# Altium integrated library Maxim Sensors.IntLib: 1171 symbols (part 22 of 61)
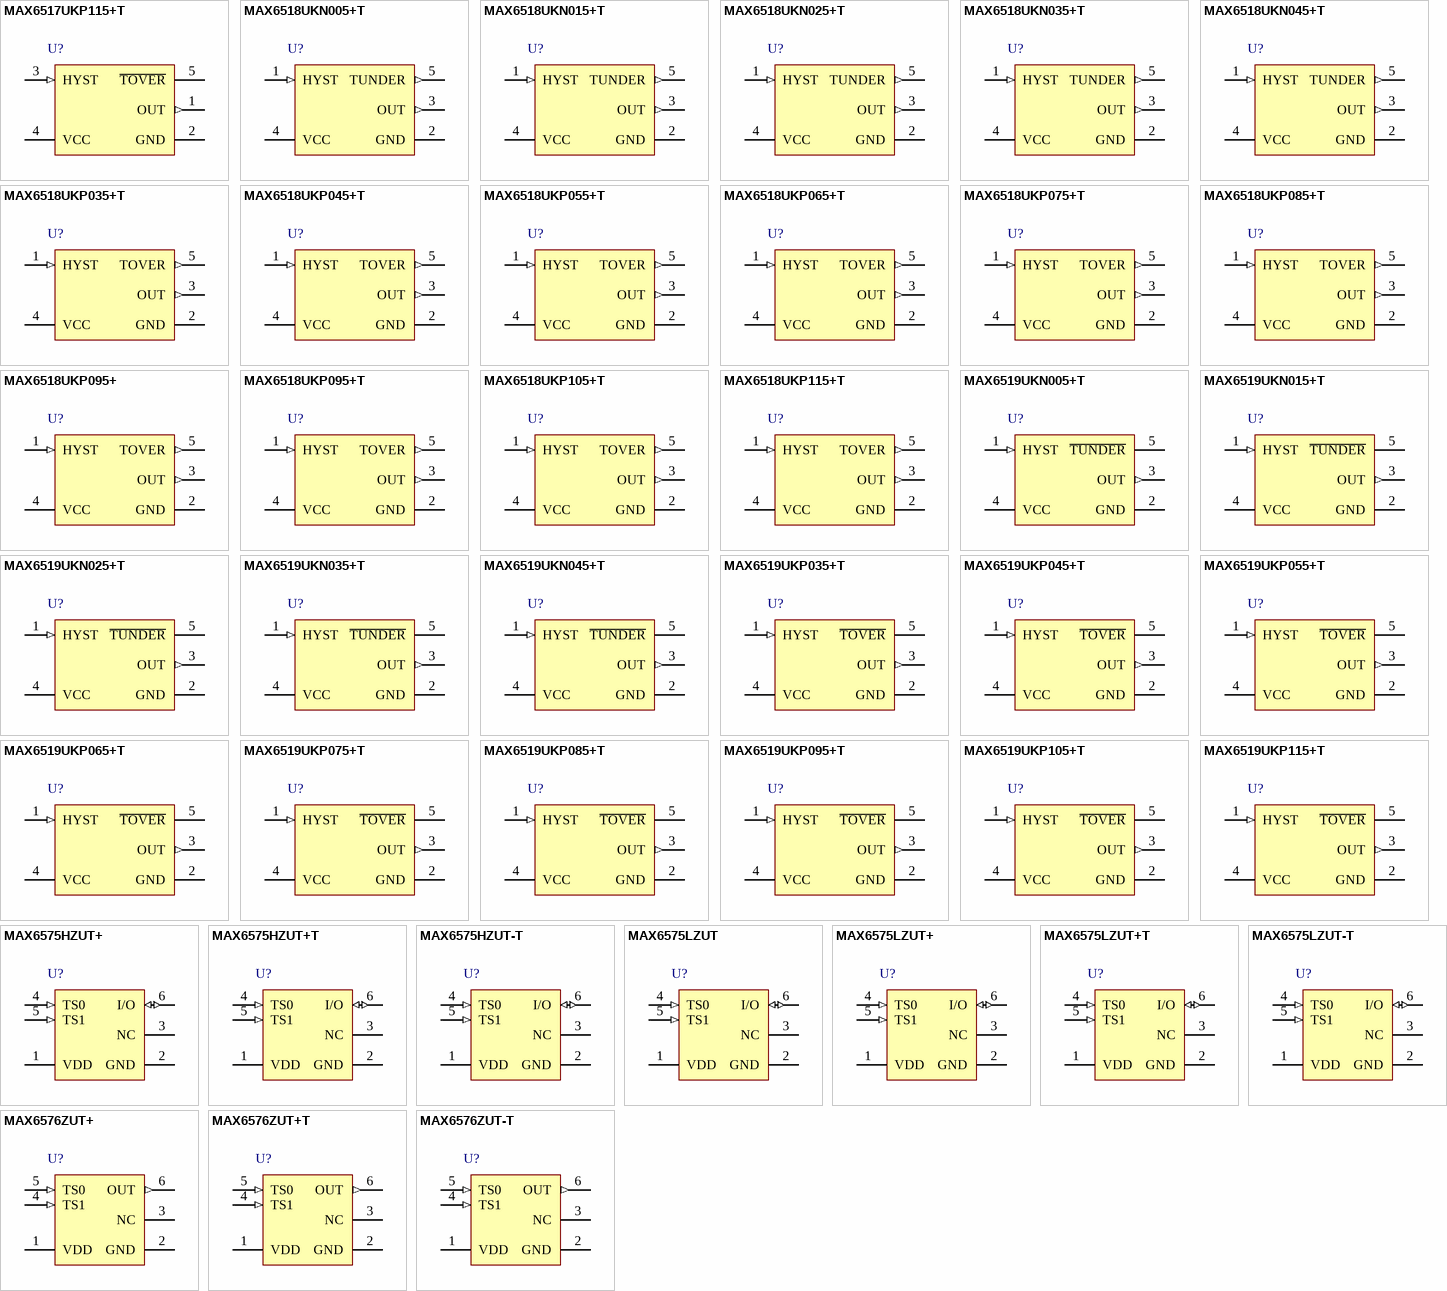
[diagram p54: symbols MAX6517UKP115+T to MAX6576ZUT-T]

## MAX6518UKP045+T
designator U?
Low-Cost, 2.7 to 5.5 V Temperature Switch, -55 to 125 degC, 5-Pin SOT23 (U5+2), Pb-Free, Tape and Reel; Generic Part Number: MAX6518; PartNumber: MAX6518UKP045+T; Functions: Temperature Switch/Temperature Comparator; Interface: Analog, Logic; DatasheetVersion: Rev. 1; PackageVersion: Rev. G, 04/2011; PackageReference: U5+2; PackageDescription: 5-Pin Small-Outline Transistor Package, Body 1.625 x 2.9 mm, Pitch 0.95 mm; Supplier 1: Digi-Key; Supplier Part Number 1: MAX6518UKP045+T-ND; Supplier 2: Mouser; Supplier Part Number 2: 700-MAX6518UKP045T; Packing: Tape and Reel; Mounting Technology: Surface Mount; Code_JEDEC: MO178; ComponentLink1Description: Manufacturer URL; ComponentLink1URL: http://www.maximintegrated.com/; ComponentLink2Description: Datasheet; ComponentLink2URL: http://datasheets.maximintegrated.com/en/ds/MAX6518; ComponentLink3Description: Package Specification; ComponentLink3URL: http://pdfserv.maximintegrated.com/package_dwgs/21-0057.PDF
footprint MAXM-U5+2_N (SOT23, 5-Leads, Body 2.9x1.625mm, Pitch 0.95mm, IPC Medium Density)
footprint MAXM-U5+2_L (SOT23, 5-Leads, Body 2.9x1.625mm, Pitch 0.95mm, IPC High Density)
footprint MAXM-U5+2_M (SOT23, 5-Leads, Body 2.9x1.625mm, Pitch 0.95mm, IPC Low Density)
pins: 1 HYST (in) "Hysteresis Input. Connect to VCC for 2degreesC of hysteresis or to GND for 10degreesC hysteresis.", 2 GND (power) "Ground", 3 OUT (out) "Analog Output. Voltage represents the die’s temperature.", 4 VCC (power) "Input Supply. Bypass to ground with a 0.1uF capacitor.", 5 TOVER (out) "Push-Pull Active-High Output (Hot Threshold). TOVER goes high when the die temperature exceeds the factory-programmed hot temperature threshold."

## MAX6518UKP055+T
designator U?
Low-Cost, 2.7 to 5.5 V Temperature Switch, -55 to 125 degC, 5-Pin SOT23 (U5+2), Pb-Free, Tape and Reel; Generic Part Number: MAX6518; PartNumber: MAX6518UKP055+T; Functions: Temperature Switch/Temperature Comparator; Interface: Analog, Logic; DatasheetVersion: Rev. 1; PackageVersion: Rev. G, 04/2011; PackageReference: U5+2; PackageDescription: 5-Pin Small-Outline Transistor Package, Body 1.625 x 2.9 mm, Pitch 0.95 mm; Supplier 1: Digi-Key; Supplier Part Number 1: MAX6518UKP055+T-ND; Supplier 2: Mouser; Supplier Part Number 2: 700-MAX6518UKP055T; Packing: Tape and Reel; Mounting Technology: Surface Mount; Code_JEDEC: MO178; ComponentLink1Description: Manufacturer URL; ComponentLink1URL: http://www.maximintegrated.com/; ComponentLink2Description: Datasheet; ComponentLink2URL: http://datasheets.maximintegrated.com/en/ds/MAX6518; ComponentLink3Description: Package Specification; ComponentLink3URL: http://pdfserv.maximintegrated.com/package_dwgs/21-0057.PDF
footprint MAXM-U5+2_N (SOT23, 5-Leads, Body 2.9x1.625mm, Pitch 0.95mm, IPC Medium Density)
footprint MAXM-U5+2_L (SOT23, 5-Leads, Body 2.9x1.625mm, Pitch 0.95mm, IPC High Density)
footprint MAXM-U5+2_M (SOT23, 5-Leads, Body 2.9x1.625mm, Pitch 0.95mm, IPC Low Density)
pins: 1 HYST (in) "Hysteresis Input. Connect to VCC for 2degreesC of hysteresis or to GND for 10degreesC hysteresis.", 2 GND (power) "Ground", 3 OUT (out) "Analog Output. Voltage represents the die’s temperature.", 4 VCC (power) "Input Supply. Bypass to ground with a 0.1uF capacitor.", 5 TOVER (out) "Push-Pull Active-High Output (Hot Threshold). TOVER goes high when the die temperature exceeds the factory-programmed hot temperature threshold."

## MAX6518UKP065+T
designator U?
Low-Cost, 2.7 to 5.5 V Temperature Switch, -55 to 125 degC, 5-Pin SOT23 (U5+2), Pb-Free, Tape and Reel; Generic Part Number: MAX6518; PartNumber: MAX6518UKP065+T; Functions: Temperature Switch/Temperature Comparator; Interface: Analog, Logic; DatasheetVersion: Rev. 1; PackageVersion: Rev. G, 04/2011; PackageReference: U5+2; PackageDescription: 5-Pin Small-Outline Transistor Package, Body 1.625 x 2.9 mm, Pitch 0.95 mm; Supplier 1: Digi-Key; Supplier Part Number 1: MAX6518UKP065+T-ND; Supplier 2: Mouser; Supplier Part Number 2: 700-MAX6518UKP065T; Packing: Tape and Reel; Mounting Technology: Surface Mount; Code_JEDEC: MO178; ComponentLink1Description: Manufacturer URL; ComponentLink1URL: http://www.maximintegrated.com/; ComponentLink2Description: Datasheet; ComponentLink2URL: http://datasheets.maximintegrated.com/en/ds/MAX6518; ComponentLink3Description: Package Specification; ComponentLink3URL: http://pdfserv.maximintegrated.com/package_dwgs/21-0057.PDF
footprint MAXM-U5+2_N (SOT23, 5-Leads, Body 2.9x1.625mm, Pitch 0.95mm, IPC Medium Density)
footprint MAXM-U5+2_L (SOT23, 5-Leads, Body 2.9x1.625mm, Pitch 0.95mm, IPC High Density)
footprint MAXM-U5+2_M (SOT23, 5-Leads, Body 2.9x1.625mm, Pitch 0.95mm, IPC Low Density)
pins: 1 HYST (in) "Hysteresis Input. Connect to VCC for 2degreesC of hysteresis or to GND for 10degreesC hysteresis.", 2 GND (power) "Ground", 3 OUT (out) "Analog Output. Voltage represents the die’s temperature.", 4 VCC (power) "Input Supply. Bypass to ground with a 0.1uF capacitor.", 5 TOVER (out) "Push-Pull Active-High Output (Hot Threshold). TOVER goes high when the die temperature exceeds the factory-programmed hot temperature threshold."

## MAX6518UKP075+T
designator U?
Low-Cost, 2.7 to 5.5 V Temperature Switch, -55 to 125 degC, 5-Pin SOT23 (U5+2), Pb-Free, Tape and Reel; Generic Part Number: MAX6518; PartNumber: MAX6518UKP075+T; Functions: Temperature Switch/Temperature Comparator; Interface: Analog, Logic; DatasheetVersion: Rev. 1; PackageVersion: Rev. G, 04/2011; PackageReference: U5+2; PackageDescription: 5-Pin Small-Outline Transistor Package, Body 1.625 x 2.9 mm, Pitch 0.95 mm; Supplier 1: Digi-Key; Supplier Part Number 1: MAX6518UKP075+T-ND; Supplier 2: Mouser; Supplier Part Number 2: 700-MAX6518UKP075T; Packing: Tape and Reel; Mounting Technology: Surface Mount; Code_JEDEC: MO178; ComponentLink1Description: Manufacturer URL; ComponentLink1URL: http://www.maximintegrated.com/; ComponentLink2Description: Datasheet; ComponentLink2URL: http://datasheets.maximintegrated.com/en/ds/MAX6518; ComponentLink3Description: Package Specification; ComponentLink3URL: http://pdfserv.maximintegrated.com/package_dwgs/21-0057.PDF
footprint MAXM-U5+2_N (SOT23, 5-Leads, Body 2.9x1.625mm, Pitch 0.95mm, IPC Medium Density)
footprint MAXM-U5+2_L (SOT23, 5-Leads, Body 2.9x1.625mm, Pitch 0.95mm, IPC High Density)
footprint MAXM-U5+2_M (SOT23, 5-Leads, Body 2.9x1.625mm, Pitch 0.95mm, IPC Low Density)
pins: 1 HYST (in) "Hysteresis Input. Connect to VCC for 2degreesC of hysteresis or to GND for 10degreesC hysteresis.", 2 GND (power) "Ground", 3 OUT (out) "Analog Output. Voltage represents the die’s temperature.", 4 VCC (power) "Input Supply. Bypass to ground with a 0.1uF capacitor.", 5 TOVER (out) "Push-Pull Active-High Output (Hot Threshold). TOVER goes high when the die temperature exceeds the factory-programmed hot temperature threshold."

## MAX6518UKP085+T
designator U?
Low-Cost, 2.7 to 5.5 V Temperature Switch, -55 to 125 degC, 5-Pin SOT23 (U5+2), Pb-Free, Tape and Reel; Generic Part Number: MAX6518; PartNumber: MAX6518UKP085+T; Functions: Temperature Switch/Temperature Comparator; Interface: Analog, Logic; DatasheetVersion: Rev. 1; PackageVersion: Rev. G, 04/2011; PackageReference: U5+2; PackageDescription: 5-Pin Small-Outline Transistor Package, Body 1.625 x 2.9 mm, Pitch 0.95 mm; Supplier 1: Digi-Key; Supplier Part Number 1: MAX6518UKP085+T-ND; Supplier 2: Mouser; Supplier Part Number 2: 700-MAX6518UKP085T; Packing: Tape and Reel; Mounting Technology: Surface Mount; Code_JEDEC: MO178; ComponentLink1Description: Manufacturer URL; ComponentLink1URL: http://www.maximintegrated.com/; ComponentLink2Description: Datasheet; ComponentLink2URL: http://datasheets.maximintegrated.com/en/ds/MAX6518; ComponentLink3Description: Package Specification; ComponentLink3URL: http://pdfserv.maximintegrated.com/package_dwgs/21-0057.PDF
footprint MAXM-U5+2_N (SOT23, 5-Leads, Body 2.9x1.625mm, Pitch 0.95mm, IPC Medium Density)
footprint MAXM-U5+2_L (SOT23, 5-Leads, Body 2.9x1.625mm, Pitch 0.95mm, IPC High Density)
footprint MAXM-U5+2_M (SOT23, 5-Leads, Body 2.9x1.625mm, Pitch 0.95mm, IPC Low Density)
pins: 1 HYST (in) "Hysteresis Input. Connect to VCC for 2degreesC of hysteresis or to GND for 10degreesC hysteresis.", 2 GND (power) "Ground", 3 OUT (out) "Analog Output. Voltage represents the die’s temperature.", 4 VCC (power) "Input Supply. Bypass to ground with a 0.1uF capacitor.", 5 TOVER (out) "Push-Pull Active-High Output (Hot Threshold). TOVER goes high when the die temperature exceeds the factory-programmed hot temperature threshold."

## MAX6518UKP095+
designator U?
Low-Cost, 2.7 to 5.5 V Temperature Switch, -55 to 125 degC, 5-Pin SOT23 (U5+2), Pb-Free; Generic Part Number: MAX6518; PartNumber: MAX6518UKP095+; Functions: Temperature Switch/Temperature Comparator; Interface: Analog, Logic; DatasheetVersion: Rev. 1; PackageVersion: Rev. G, 04/2011; PackageReference: U5+2; PackageDescription: 5-Pin Small-Outline Transistor Package, Body 1.625 x 2.9 mm, Pitch 0.95 mm; Supplier 1: Mouser; Supplier Part Number 1: N/A; Mounting Technology: Surface Mount; Code_JEDEC: MO178; ComponentLink1Description: Manufacturer URL; ComponentLink1URL: http://www.maximintegrated.com/; ComponentLink2Description: Datasheet; ComponentLink2URL: http://datasheets.maximintegrated.com/en/ds/MAX6518; ComponentLink3Description: Package Specification; ComponentLink3URL: http://pdfserv.maximintegrated.com/package_dwgs/21-0057.PDF
footprint MAXM-U5+2_N (SOT23, 5-Leads, Body 2.9x1.625mm, Pitch 0.95mm, IPC Medium Density)
footprint MAXM-U5+2_L (SOT23, 5-Leads, Body 2.9x1.625mm, Pitch 0.95mm, IPC High Density)
footprint MAXM-U5+2_M (SOT23, 5-Leads, Body 2.9x1.625mm, Pitch 0.95mm, IPC Low Density)
pins: 1 HYST (in) "Hysteresis Input. Connect to VCC for 2degreesC of hysteresis or to GND for 10degreesC hysteresis.", 2 GND (power) "Ground", 3 OUT (out) "Analog Output. Voltage represents the die’s temperature.", 4 VCC (power) "Input Supply. Bypass to ground with a 0.1uF capacitor.", 5 TOVER (out) "Push-Pull Active-High Output (Hot Threshold). TOVER goes high when the die temperature exceeds the factory-programmed hot temperature threshold."

## MAX6518UKP095+T
designator U?
Low-Cost, 2.7 to 5.5 V Temperature Switch, -55 to 125 degC, 5-Pin SOT23 (U5+2), Pb-Free, Tape and Reel; Generic Part Number: MAX6518; PartNumber: MAX6518UKP095+T; Functions: Temperature Switch/Temperature Comparator; Interface: Analog, Logic; DatasheetVersion: Rev. 1; PackageVersion: Rev. G, 04/2011; PackageReference: U5+2; PackageDescription: 5-Pin Small-Outline Transistor Package, Body 1.625 x 2.9 mm, Pitch 0.95 mm; Supplier 1: Digi-Key; Supplier Part Number 1: MAX6518UKP095+TTR-ND; Supplier 2: Digi-Key; Supplier Part Number 2: MAX6518UKP095+TCT-ND; Supplier 3: Digi-Key; Supplier Part Number 3: MAX6518UKP095+TDKR-ND; Supplier 4: Mouser; Supplier Part Number 4: 700-MAX6518UKP095T; Packing: Tape and Reel; Mounting Technology: Surface Mount; Code_JEDEC: MO178; ComponentLink1Description: Manufacturer URL; ComponentLink1URL: http://www.maximintegrated.com/; ComponentLink2Description: Datasheet; ComponentLink2URL: http://datasheets.maximintegrated.com/en/ds/MAX6518; ComponentLink3Description: Package Specification; ComponentLink3URL: http://pdfserv.maximintegrated.com/package_dwgs/21-0057.PDF
footprint MAXM-U5+2_N (SOT23, 5-Leads, Body 2.9x1.625mm, Pitch 0.95mm, IPC Medium Density)
footprint MAXM-U5+2_L (SOT23, 5-Leads, Body 2.9x1.625mm, Pitch 0.95mm, IPC High Density)
footprint MAXM-U5+2_M (SOT23, 5-Leads, Body 2.9x1.625mm, Pitch 0.95mm, IPC Low Density)
pins: 1 HYST (in) "Hysteresis Input. Connect to VCC for 2degreesC of hysteresis or to GND for 10degreesC hysteresis.", 2 GND (power) "Ground", 3 OUT (out) "Analog Output. Voltage represents the die’s temperature.", 4 VCC (power) "Input Supply. Bypass to ground with a 0.1uF capacitor.", 5 TOVER (out) "Push-Pull Active-High Output (Hot Threshold). TOVER goes high when the die temperature exceeds the factory-programmed hot temperature threshold."

## MAX6518UKP105+T
designator U?
Low-Cost, 2.7 to 5.5 V Temperature Switch, -55 to 125 degC, 5-Pin SOT23 (U5+2), Pb-Free, Tape and Reel; Generic Part Number: MAX6518; PartNumber: MAX6518UKP105+T; Functions: Temperature Switch/Temperature Comparator; Interface: Analog, Logic; DatasheetVersion: Rev. 1; PackageVersion: Rev. G, 04/2011; PackageReference: U5+2; PackageDescription: 5-Pin Small-Outline Transistor Package, Body 1.625 x 2.9 mm, Pitch 0.95 mm; Supplier 1: Digi-Key; Supplier Part Number 1: MAX6518UKP105+T-ND; Supplier 2: Mouser; Supplier Part Number 2: 700-MAX6518UKP105T; Packing: Tape and Reel; Mounting Technology: Surface Mount; Code_JEDEC: MO178; ComponentLink1Description: Manufacturer URL; ComponentLink1URL: http://www.maximintegrated.com/; ComponentLink2Description: Datasheet; ComponentLink2URL: http://datasheets.maximintegrated.com/en/ds/MAX6518; ComponentLink3Description: Package Specification; ComponentLink3URL: http://pdfserv.maximintegrated.com/package_dwgs/21-0057.PDF
footprint MAXM-U5+2_N (SOT23, 5-Leads, Body 2.9x1.625mm, Pitch 0.95mm, IPC Medium Density)
footprint MAXM-U5+2_L (SOT23, 5-Leads, Body 2.9x1.625mm, Pitch 0.95mm, IPC High Density)
footprint MAXM-U5+2_M (SOT23, 5-Leads, Body 2.9x1.625mm, Pitch 0.95mm, IPC Low Density)
pins: 1 HYST (in) "Hysteresis Input. Connect to VCC for 2degreesC of hysteresis or to GND for 10degreesC hysteresis.", 2 GND (power) "Ground", 3 OUT (out) "Analog Output. Voltage represents the die’s temperature.", 4 VCC (power) "Input Supply. Bypass to ground with a 0.1uF capacitor.", 5 TOVER (out) "Push-Pull Active-High Output (Hot Threshold). TOVER goes high when the die temperature exceeds the factory-programmed hot temperature threshold."

## MAX6518UKP115+T
designator U?
Low-Cost, 2.7 to 5.5 V Temperature Switch, -55 to 125 degC, 5-Pin SOT23 (U5+2), Pb-Free, Tape and Reel; Generic Part Number: MAX6518; PartNumber: MAX6518UKP115+T; Functions: Temperature Switch/Temperature Comparator; Interface: Analog, Logic; DatasheetVersion: Rev. 1; PackageVersion: Rev. G, 04/2011; PackageReference: U5+2; PackageDescription: 5-Pin Small-Outline Transistor Package, Body 1.625 x 2.9 mm, Pitch 0.95 mm; Supplier 1: Digi-Key; Supplier Part Number 1: MAX6518UKP115+T-ND; Supplier 2: Mouser; Supplier Part Number 2: 700-MAX6518UKP115T; Packing: Tape and Reel; Mounting Technology: Surface Mount; Code_JEDEC: MO178; ComponentLink1Description: Manufacturer URL; ComponentLink1URL: http://www.maximintegrated.com/; ComponentLink2Description: Datasheet; ComponentLink2URL: http://datasheets.maximintegrated.com/en/ds/MAX6518; ComponentLink3Description: Package Specification; ComponentLink3URL: http://pdfserv.maximintegrated.com/package_dwgs/21-0057.PDF
footprint MAXM-U5+2_N (SOT23, 5-Leads, Body 2.9x1.625mm, Pitch 0.95mm, IPC Medium Density)
footprint MAXM-U5+2_L (SOT23, 5-Leads, Body 2.9x1.625mm, Pitch 0.95mm, IPC High Density)
footprint MAXM-U5+2_M (SOT23, 5-Leads, Body 2.9x1.625mm, Pitch 0.95mm, IPC Low Density)
pins: 1 HYST (in) "Hysteresis Input. Connect to VCC for 2degreesC of hysteresis or to GND for 10degreesC hysteresis.", 2 GND (power) "Ground", 3 OUT (out) "Analog Output. Voltage represents the die’s temperature.", 4 VCC (power) "Input Supply. Bypass to ground with a 0.1uF capacitor.", 5 TOVER (out) "Push-Pull Active-High Output (Hot Threshold). TOVER goes high when the die temperature exceeds the factory-programmed hot temperature threshold."

## MAX6519UKN005+T
designator U?
Low-Cost, 2.7 to 5.5 V Temperature Switch, -55 to 125 degC, 5-Pin SOT23 (U5+2), Pb-Free, Tape and Reel; Generic Part Number: MAX6519; PartNumber: MAX6519UKN005+T; Functions: Temperature Switch/Temperature Comparator; Interface: Logic; DatasheetVersion: Rev. 1; PackageVersion: Rev. G, 04/2011; PackageReference: U5+2; PackageDescription: 5-Pin Small-Outline Transistor Package, Body 1.625 x 2.9 mm, Pitch 0.95 mm; Supplier 1: Mouser; Supplier Part Number 1: N/A; Packing: Tape and Reel; Mounting Technology: Surface Mount; Code_JEDEC: MO178; ComponentLink1Description: Manufacturer URL; ComponentLink1URL: http://www.maximintegrated.com/; ComponentLink2Description: Datasheet; ComponentLink2URL: http://datasheets.maximintegrated.com/en/ds/MAX6516-MAX6519.pdf; ComponentLink3Description: Package Specification; ComponentLink3URL: http://pdfserv.maximintegrated.com/package_dwgs/21-0057.PDF
footprint MAXM-U5+2_N (SOT23, 5-Leads, Body 2.9x1.625mm, Pitch 0.95mm, IPC Medium Density)
footprint MAXM-U5+2_L (SOT23, 5-Leads, Body 2.9x1.625mm, Pitch 0.95mm, IPC High Density)
footprint MAXM-U5+2_M (SOT23, 5-Leads, Body 2.9x1.625mm, Pitch 0.95mm, IPC Low Density)
pins: 1 HYST (in) "Hysteresis Input. Connect to VCC for 2degreesC of hysteresis or to GND for 10degreesC hysteresis", 2 GND (power) "Ground", 3 OUT (out) "Analog Output. Voltage represents the die’s temperature.", 4 VCC (power) "Input Supply. Bypass to ground with a 0.1uF capacitor.", 5 ~{TUNDER} (oc) "Open-Drain, Active-Low Output (Cold Threshold). T\U\N\D\E\R\ goes low when the die temperature goes below the factory-programmed cold temperature threshold. Connect to a 100k ohm pullup resistor. May be pulled up to a (See Datasheet)"

## MAX6519UKN015+T
designator U?
Low-Cost, 2.7 to 5.5 V Temperature Switch, -55 to 125 degC, 5-Pin SOT23 (U5+2), Pb-Free, Tape and Reel; Generic Part Number: MAX6519; PartNumber: MAX6519UKN015+T; Functions: Temperature Switch/Temperature Comparator; Interface: Logic; DatasheetVersion: Rev. 1; PackageVersion: Rev. G, 04/2011; PackageReference: U5+2; PackageDescription: 5-Pin Small-Outline Transistor Package, Body 1.625 x 2.9 mm, Pitch 0.95 mm; Supplier 1: Mouser; Supplier Part Number 1: N/A; Packing: Tape and Reel; Mounting Technology: Surface Mount; Code_JEDEC: MO178; ComponentLink1Description: Manufacturer URL; ComponentLink1URL: http://www.maximintegrated.com/; ComponentLink2Description: Datasheet; ComponentLink2URL: http://datasheets.maximintegrated.com/en/ds/MAX6516-MAX6519.pdf; ComponentLink3Description: Package Specification; ComponentLink3URL: http://pdfserv.maximintegrated.com/package_dwgs/21-0057.PDF
footprint MAXM-U5+2_N (SOT23, 5-Leads, Body 2.9x1.625mm, Pitch 0.95mm, IPC Medium Density)
footprint MAXM-U5+2_L (SOT23, 5-Leads, Body 2.9x1.625mm, Pitch 0.95mm, IPC High Density)
footprint MAXM-U5+2_M (SOT23, 5-Leads, Body 2.9x1.625mm, Pitch 0.95mm, IPC Low Density)
pins: 1 HYST (in) "Hysteresis Input. Connect to VCC for 2degreesC of hysteresis or to GND for 10degreesC hysteresis", 2 GND (power) "Ground", 3 OUT (out) "Analog Output. Voltage represents the die’s temperature.", 4 VCC (power) "Input Supply. Bypass to ground with a 0.1uF capacitor.", 5 ~{TUNDER} (oc) "Open-Drain, Active-Low Output (Cold Threshold). T\U\N\D\E\R\ goes low when the die temperature goes below the factory-programmed cold temperature threshold. Connect to a 100k ohm pullup resistor. May be pulled up to a (See Datasheet)"

## MAX6519UKN025+T
designator U?
Low-Cost, 2.7 to 5.5 V Temperature Switch, -55 to 125 degC, 5-Pin SOT23 (U5+2), Pb-Free, Tape and Reel; Generic Part Number: MAX6519; PartNumber: MAX6519UKN025+T; Functions: Temperature Switch/Temperature Comparator; Interface: Logic; DatasheetVersion: Rev. 1; PackageVersion: Rev. G, 04/2011; PackageReference: U5+2; PackageDescription: 5-Pin Small-Outline Transistor Package, Body 1.625 x 2.9 mm, Pitch 0.95 mm; Supplier 1: Mouser; Supplier Part Number 1: N/A; Packing: Tape and Reel; Mounting Technology: Surface Mount; Code_JEDEC: MO178; ComponentLink1Description: Manufacturer URL; ComponentLink1URL: http://www.maximintegrated.com/; ComponentLink2Description: Datasheet; ComponentLink2URL: http://datasheets.maximintegrated.com/en/ds/MAX6516-MAX6519.pdf; ComponentLink3Description: Package Specification; ComponentLink3URL: http://pdfserv.maximintegrated.com/package_dwgs/21-0057.PDF
footprint MAXM-U5+2_N (SOT23, 5-Leads, Body 2.9x1.625mm, Pitch 0.95mm, IPC Medium Density)
footprint MAXM-U5+2_L (SOT23, 5-Leads, Body 2.9x1.625mm, Pitch 0.95mm, IPC High Density)
footprint MAXM-U5+2_M (SOT23, 5-Leads, Body 2.9x1.625mm, Pitch 0.95mm, IPC Low Density)
pins: 1 HYST (in) "Hysteresis Input. Connect to VCC for 2degreesC of hysteresis or to GND for 10degreesC hysteresis", 2 GND (power) "Ground", 3 OUT (out) "Analog Output. Voltage represents the die’s temperature.", 4 VCC (power) "Input Supply. Bypass to ground with a 0.1uF capacitor.", 5 ~{TUNDER} (oc) "Open-Drain, Active-Low Output (Cold Threshold). T\U\N\D\E\R\ goes low when the die temperature goes below the factory-programmed cold temperature threshold. Connect to a 100k ohm pullup resistor. May be pulled up to a (See Datasheet)"

## MAX6519UKN035+T
designator U?
Low-Cost, 2.7 to 5.5 V Temperature Switch, -55 to 125 degC, 5-Pin SOT23 (U5+2), Pb-Free, Tape and Reel; Generic Part Number: MAX6519; PartNumber: MAX6519UKN035+T; Functions: Temperature Switch/Temperature Comparator; Interface: Logic; DatasheetVersion: Rev. 1; PackageVersion: Rev. G, 04/2011; PackageReference: U5+2; PackageDescription: 5-Pin Small-Outline Transistor Package, Body 1.625 x 2.9 mm, Pitch 0.95 mm; Supplier 1: Mouser; Supplier Part Number 1: N/A; Packing: Tape and Reel; Mounting Technology: Surface Mount; Code_JEDEC: MO178; ComponentLink1Description: Manufacturer URL; ComponentLink1URL: http://www.maximintegrated.com/; ComponentLink2Description: Datasheet; ComponentLink2URL: http://datasheets.maximintegrated.com/en/ds/MAX6516-MAX6519.pdf; ComponentLink3Description: Package Specification; ComponentLink3URL: http://pdfserv.maximintegrated.com/package_dwgs/21-0057.PDF
footprint MAXM-U5+2_N (SOT23, 5-Leads, Body 2.9x1.625mm, Pitch 0.95mm, IPC Medium Density)
footprint MAXM-U5+2_L (SOT23, 5-Leads, Body 2.9x1.625mm, Pitch 0.95mm, IPC High Density)
footprint MAXM-U5+2_M (SOT23, 5-Leads, Body 2.9x1.625mm, Pitch 0.95mm, IPC Low Density)
pins: 1 HYST (in) "Hysteresis Input. Connect to VCC for 2degreesC of hysteresis or to GND for 10degreesC hysteresis", 2 GND (power) "Ground", 3 OUT (out) "Analog Output. Voltage represents the die’s temperature.", 4 VCC (power) "Input Supply. Bypass to ground with a 0.1uF capacitor.", 5 ~{TUNDER} (oc) "Open-Drain, Active-Low Output (Cold Threshold). T\U\N\D\E\R\ goes low when the die temperature goes below the factory-programmed cold temperature threshold. Connect to a 100k ohm pullup resistor. May be pulled up to a (See Datasheet)"

## MAX6519UKN045+T
designator U?
Low-Cost, 2.7 to 5.5 V Temperature Switch, -55 to 125 degC, 5-Pin SOT23 (U5+2), Pb-Free, Tape and Reel; Generic Part Number: MAX6519; PartNumber: MAX6519UKN045+T; Functions: Temperature Switch/Temperature Comparator; Interface: Logic; DatasheetVersion: Rev. 1; PackageVersion: Rev. G, 04/2011; PackageReference: U5+2; PackageDescription: 5-Pin Small-Outline Transistor Package, Body 1.625 x 2.9 mm, Pitch 0.95 mm; Supplier 1: Mouser; Supplier Part Number 1: N/A; Packing: Tape and Reel; Mounting Technology: Surface Mount; Code_JEDEC: MO178; ComponentLink1Description: Manufacturer URL; ComponentLink1URL: http://www.maximintegrated.com/; ComponentLink2Description: Datasheet; ComponentLink2URL: http://datasheets.maximintegrated.com/en/ds/MAX6516-MAX6519.pdf; ComponentLink3Description: Package Specification; ComponentLink3URL: http://pdfserv.maximintegrated.com/package_dwgs/21-0057.PDF
footprint MAXM-U5+2_N (SOT23, 5-Leads, Body 2.9x1.625mm, Pitch 0.95mm, IPC Medium Density)
footprint MAXM-U5+2_L (SOT23, 5-Leads, Body 2.9x1.625mm, Pitch 0.95mm, IPC High Density)
footprint MAXM-U5+2_M (SOT23, 5-Leads, Body 2.9x1.625mm, Pitch 0.95mm, IPC Low Density)
pins: 1 HYST (in) "Hysteresis Input. Connect to VCC for 2degreesC of hysteresis or to GND for 10degreesC hysteresis", 2 GND (power) "Ground", 3 OUT (out) "Analog Output. Voltage represents the die’s temperature.", 4 VCC (power) "Input Supply. Bypass to ground with a 0.1uF capacitor.", 5 ~{TUNDER} (oc) "Open-Drain, Active-Low Output (Cold Threshold). T\U\N\D\E\R\ goes low when the die temperature goes below the factory-programmed cold temperature threshold. Connect to a 100k ohm pullup resistor. May be pulled up to a (See Datasheet)"

## MAX6519UKP035+T
designator U?
Low-Cost, 2.7 to 5.5 V Temperature Switch, -55 to 125 degC, 5-Pin SOT23 (U5+2), Pb-Free, Tape and Reel; Generic Part Number: MAX6519; PartNumber: MAX6519UKP035+T; Functions: Temperature Switch/Temperature Comparator; Interface: Logic; DatasheetVersion: Rev. 1; PackageVersion: Rev. G, 04/2011; PackageReference: U5+2; PackageDescription: 5-Pin Small-Outline Transistor Package, Body 1.625 x 2.9 mm, Pitch 0.95 mm; Supplier 1: Digi-Key; Supplier Part Number 1: MAX6519UKP035+T-ND; Supplier 2: Mouser; Supplier Part Number 2: 700-MAX6519UKP035T; Packing: Tape and Reel; Mounting Technology: Surface Mount; Code_JEDEC: MO178; ComponentLink1Description: Manufacturer URL; ComponentLink1URL: http://www.maximintegrated.com/; ComponentLink2Description: Datasheet; ComponentLink2URL: http://datasheets.maximintegrated.com/en/ds/MAX6516-MAX6519.pdf; ComponentLink3Description: Package Specification; ComponentLink3URL: http://pdfserv.maximintegrated.com/package_dwgs/21-0057.PDF
footprint MAXM-U5+2_N (SOT23, 5-Leads, Body 2.9x1.625mm, Pitch 0.95mm, IPC Medium Density)
footprint MAXM-U5+2_L (SOT23, 5-Leads, Body 2.9x1.625mm, Pitch 0.95mm, IPC High Density)
footprint MAXM-U5+2_M (SOT23, 5-Leads, Body 2.9x1.625mm, Pitch 0.95mm, IPC Low Density)
pins: 1 HYST (in) "Hysteresis Input. Connect to VCC for 2degreesC of hysteresis or to GND for 10degreesC hysteresis", 2 GND (power) "Ground", 3 OUT (out) "Analog Output. Voltage represents the die’s temperature.", 4 VCC (power) "Input Supply. Bypass to ground with a 0.1uF capacitor.", 5 ~{TOVER} (oc) "Open-Drain, Active-Low Output (Hot Threshold). T\O\V\E\R\ goes low when the die temperature exceeds the factory-programmed hot temperature threshold. Connect to a 100k ohm pullup resistor. May be pulled up to a voltage (See Datasheet)"

## MAX6519UKP045+T
designator U?
Low-Cost, 2.7 to 5.5 V Temperature Switch, -55 to 125 degC, 5-Pin SOT23 (U5+2), Pb-Free, Tape and Reel; Generic Part Number: MAX6519; PartNumber: MAX6519UKP045+T; Functions: Temperature Switch/Temperature Comparator; Interface: Logic; DatasheetVersion: Rev. 1; PackageVersion: Rev. G, 04/2011; PackageReference: U5+2; PackageDescription: 5-Pin Small-Outline Transistor Package, Body 1.625 x 2.9 mm, Pitch 0.95 mm; Supplier 1: Digi-Key; Supplier Part Number 1: MAX6519UKP045+T-ND; Supplier 2: Mouser; Supplier Part Number 2: 700-MAX6519UKP045T; Packing: Tape and Reel; Mounting Technology: Surface Mount; Code_JEDEC: MO178; ComponentLink1Description: Manufacturer URL; ComponentLink1URL: http://www.maximintegrated.com/; ComponentLink2Description: Datasheet; ComponentLink2URL: http://datasheets.maximintegrated.com/en/ds/MAX6516-MAX6519.pdf; ComponentLink3Description: Package Specification; ComponentLink3URL: http://pdfserv.maximintegrated.com/package_dwgs/21-0057.PDF
footprint MAXM-U5+2_N (SOT23, 5-Leads, Body 2.9x1.625mm, Pitch 0.95mm, IPC Medium Density)
footprint MAXM-U5+2_L (SOT23, 5-Leads, Body 2.9x1.625mm, Pitch 0.95mm, IPC High Density)
footprint MAXM-U5+2_M (SOT23, 5-Leads, Body 2.9x1.625mm, Pitch 0.95mm, IPC Low Density)
pins: 1 HYST (in) "Hysteresis Input. Connect to VCC for 2degreesC of hysteresis or to GND for 10degreesC hysteresis", 2 GND (power) "Ground", 3 OUT (out) "Analog Output. Voltage represents the die’s temperature.", 4 VCC (power) "Input Supply. Bypass to ground with a 0.1uF capacitor.", 5 ~{TOVER} (oc) "Open-Drain, Active-Low Output (Hot Threshold). T\O\V\E\R\ goes low when the die temperature exceeds the factory-programmed hot temperature threshold. Connect to a 100k ohm pullup resistor. May be pulled up to a voltage (See Datasheet)"

## MAX6519UKP055+T
designator U?
Low-Cost, 2.7 to 5.5 V Temperature Switch, -55 to 125 degC, 5-Pin SOT23 (U5+2), Pb-Free, Tape and Reel; Generic Part Number: MAX6519; PartNumber: MAX6519UKP055+T; Functions: Temperature Switch/Temperature Comparator; Interface: Logic; DatasheetVersion: Rev. 1; PackageVersion: Rev. G, 04/2011; PackageReference: U5+2; PackageDescription: 5-Pin Small-Outline Transistor Package, Body 1.625 x 2.9 mm, Pitch 0.95 mm; Supplier 1: Digi-Key; Supplier Part Number 1: MAX6519UKP055+T-ND; Supplier 2: Mouser; Supplier Part Number 2: 700-MAX6519UKP055T; Packing: Tape and Reel; Mounting Technology: Surface Mount; Code_JEDEC: MO178; ComponentLink1Description: Manufacturer URL; ComponentLink1URL: http://www.maximintegrated.com/; ComponentLink2Description: Datasheet; ComponentLink2URL: http://datasheets.maximintegrated.com/en/ds/MAX6516-MAX6519.pdf; ComponentLink3Description: Package Specification; ComponentLink3URL: http://pdfserv.maximintegrated.com/package_dwgs/21-0057.PDF
footprint MAXM-U5+2_N (SOT23, 5-Leads, Body 2.9x1.625mm, Pitch 0.95mm, IPC Medium Density)
footprint MAXM-U5+2_L (SOT23, 5-Leads, Body 2.9x1.625mm, Pitch 0.95mm, IPC High Density)
footprint MAXM-U5+2_M (SOT23, 5-Leads, Body 2.9x1.625mm, Pitch 0.95mm, IPC Low Density)
pins: 1 HYST (in) "Hysteresis Input. Connect to VCC for 2degreesC of hysteresis or to GND for 10degreesC hysteresis", 2 GND (power) "Ground", 3 OUT (out) "Analog Output. Voltage represents the die’s temperature.", 4 VCC (power) "Input Supply. Bypass to ground with a 0.1uF capacitor.", 5 ~{TOVER} (oc) "Open-Drain, Active-Low Output (Hot Threshold). T\O\V\E\R\ goes low when the die temperature exceeds the factory-programmed hot temperature threshold. Connect to a 100k ohm pullup resistor. May be pulled up to a voltage (See Datasheet)"

## MAX6519UKP065+T
designator U?
Low-Cost, 2.7 to 5.5 V Temperature Switch, -55 to 125 degC, 5-Pin SOT23 (U5+2), Pb-Free, Tape and Reel; Generic Part Number: MAX6519; PartNumber: MAX6519UKP065+T; Functions: Temperature Switch/Temperature Comparator; Interface: Logic; DatasheetVersion: Rev. 1; PackageVersion: Rev. G, 04/2011; PackageReference: U5+2; PackageDescription: 5-Pin Small-Outline Transistor Package, Body 1.625 x 2.9 mm, Pitch 0.95 mm; Supplier 1: Digi-Key; Supplier Part Number 1: MAX6519UKP065+T-ND; Supplier 2: Mouser; Supplier Part Number 2: 700-MAX6519UKP065T; Packing: Tape and Reel; Mounting Technology: Surface Mount; Code_JEDEC: MO178; ComponentLink1Description: Manufacturer URL; ComponentLink1URL: http://www.maximintegrated.com/; ComponentLink2Description: Datasheet; ComponentLink2URL: http://datasheets.maximintegrated.com/en/ds/MAX6516-MAX6519.pdf; ComponentLink3Description: Package Specification; ComponentLink3URL: http://pdfserv.maximintegrated.com/package_dwgs/21-0057.PDF
footprint MAXM-U5+2_N (SOT23, 5-Leads, Body 2.9x1.625mm, Pitch 0.95mm, IPC Medium Density)
footprint MAXM-U5+2_L (SOT23, 5-Leads, Body 2.9x1.625mm, Pitch 0.95mm, IPC High Density)
footprint MAXM-U5+2_M (SOT23, 5-Leads, Body 2.9x1.625mm, Pitch 0.95mm, IPC Low Density)
pins: 1 HYST (in) "Hysteresis Input. Connect to VCC for 2degreesC of hysteresis or to GND for 10degreesC hysteresis", 2 GND (power) "Ground", 3 OUT (out) "Analog Output. Voltage represents the die’s temperature.", 4 VCC (power) "Input Supply. Bypass to ground with a 0.1uF capacitor.", 5 ~{TOVER} (oc) "Open-Drain, Active-Low Output (Hot Threshold). T\O\V\E\R\ goes low when the die temperature exceeds the factory-programmed hot temperature threshold. Connect to a 100k ohm pullup resistor. May be pulled up to a voltage (See Datasheet)"

## MAX6519UKP075+T
designator U?
Low-Cost, 2.7 to 5.5 V Temperature Switch, -55 to 125 degC, 5-Pin SOT23 (U5+2), Pb-Free, Tape and Reel; Generic Part Number: MAX6519; PartNumber: MAX6519UKP075+T; Functions: Temperature Switch/Temperature Comparator; Interface: Logic; DatasheetVersion: Rev. 1; PackageVersion: Rev. G, 04/2011; PackageReference: U5+2; PackageDescription: 5-Pin Small-Outline Transistor Package, Body 1.625 x 2.9 mm, Pitch 0.95 mm; Supplier 1: Digi-Key; Supplier Part Number 1: MAX6519UKP075+T-ND; Supplier 2: Mouser; Supplier Part Number 2: 700-MAX6519UKP075T; Packing: Tape and Reel; Mounting Technology: Surface Mount; Code_JEDEC: MO178; ComponentLink1Description: Manufacturer URL; ComponentLink1URL: http://www.maximintegrated.com/; ComponentLink2Description: Datasheet; ComponentLink2URL: http://datasheets.maximintegrated.com/en/ds/MAX6516-MAX6519.pdf; ComponentLink3Description: Package Specification; ComponentLink3URL: http://pdfserv.maximintegrated.com/package_dwgs/21-0057.PDF
footprint MAXM-U5+2_N (SOT23, 5-Leads, Body 2.9x1.625mm, Pitch 0.95mm, IPC Medium Density)
footprint MAXM-U5+2_L (SOT23, 5-Leads, Body 2.9x1.625mm, Pitch 0.95mm, IPC High Density)
footprint MAXM-U5+2_M (SOT23, 5-Leads, Body 2.9x1.625mm, Pitch 0.95mm, IPC Low Density)
pins: 1 HYST (in) "Hysteresis Input. Connect to VCC for 2degreesC of hysteresis or to GND for 10degreesC hysteresis", 2 GND (power) "Ground", 3 OUT (out) "Analog Output. Voltage represents the die’s temperature.", 4 VCC (power) "Input Supply. Bypass to ground with a 0.1uF capacitor.", 5 ~{TOVER} (oc) "Open-Drain, Active-Low Output (Hot Threshold). T\O\V\E\R\ goes low when the die temperature exceeds the factory-programmed hot temperature threshold. Connect to a 100k ohm pullup resistor. May be pulled up to a voltage (See Datasheet)"

## MAX6519UKP085+T
designator U?
Low-Cost, 2.7 to 5.5 V Temperature Switch, -55 to 125 degC, 5-Pin SOT23 (U5+2), Pb-Free, Tape and Reel; Generic Part Number: MAX6519; PartNumber: MAX6519UKP085+T; Functions: Temperature Switch/Temperature Comparator; Interface: Logic; DatasheetVersion: Rev. 1; PackageVersion: Rev. G, 04/2011; PackageReference: U5+2; PackageDescription: 5-Pin Small-Outline Transistor Package, Body 1.625 x 2.9 mm, Pitch 0.95 mm; Supplier 1: Digi-Key; Supplier Part Number 1: MAX6519UKP085+T-ND; Supplier 2: Mouser; Supplier Part Number 2: 700-MAX6519UKP085T; Packing: Tape and Reel; Mounting Technology: Surface Mount; Code_JEDEC: MO178; ComponentLink1Description: Manufacturer URL; ComponentLink1URL: http://www.maximintegrated.com/; ComponentLink2Description: Datasheet; ComponentLink2URL: http://datasheets.maximintegrated.com/en/ds/MAX6516-MAX6519.pdf; ComponentLink3Description: Package Specification; ComponentLink3URL: http://pdfserv.maximintegrated.com/package_dwgs/21-0057.PDF
footprint MAXM-U5+2_N (SOT23, 5-Leads, Body 2.9x1.625mm, Pitch 0.95mm, IPC Medium Density)
footprint MAXM-U5+2_L (SOT23, 5-Leads, Body 2.9x1.625mm, Pitch 0.95mm, IPC High Density)
footprint MAXM-U5+2_M (SOT23, 5-Leads, Body 2.9x1.625mm, Pitch 0.95mm, IPC Low Density)
pins: 1 HYST (in) "Hysteresis Input. Connect to VCC for 2degreesC of hysteresis or to GND for 10degreesC hysteresis", 2 GND (power) "Ground", 3 OUT (out) "Analog Output. Voltage represents the die’s temperature.", 4 VCC (power) "Input Supply. Bypass to ground with a 0.1uF capacitor.", 5 ~{TOVER} (oc) "Open-Drain, Active-Low Output (Hot Threshold). T\O\V\E\R\ goes low when the die temperature exceeds the factory-programmed hot temperature threshold. Connect to a 100k ohm pullup resistor. May be pulled up to a voltage (See Datasheet)"

## MAX6519UKP095+T
designator U?
Low-Cost, 2.7 to 5.5 V Temperature Switch, -55 to 125 degC, 5-Pin SOT23 (U5+2), Pb-Free, Tape and Reel; Generic Part Number: MAX6519; PartNumber: MAX6519UKP095+T; Functions: Temperature Switch/Temperature Comparator; Interface: Logic; DatasheetVersion: Rev. 1; PackageVersion: Rev. G, 04/2011; PackageReference: U5+2; PackageDescription: 5-Pin Small-Outline Transistor Package, Body 1.625 x 2.9 mm, Pitch 0.95 mm; Supplier 1: Digi-Key; Supplier Part Number 1: MAX6519UKP095+T-ND; Supplier 2: Mouser; Supplier Part Number 2: 700-MAX6519UKP095T; Packing: Tape and Reel; Mounting Technology: Surface Mount; Code_JEDEC: MO178; ComponentLink1Description: Manufacturer URL; ComponentLink1URL: http://www.maximintegrated.com/; ComponentLink2Description: Datasheet; ComponentLink2URL: http://datasheets.maximintegrated.com/en/ds/MAX6516-MAX6519.pdf; ComponentLink3Description: Package Specification; ComponentLink3URL: http://pdfserv.maximintegrated.com/package_dwgs/21-0057.PDF
footprint MAXM-U5+2_N (SOT23, 5-Leads, Body 2.9x1.625mm, Pitch 0.95mm, IPC Medium Density)
footprint MAXM-U5+2_L (SOT23, 5-Leads, Body 2.9x1.625mm, Pitch 0.95mm, IPC High Density)
footprint MAXM-U5+2_M (SOT23, 5-Leads, Body 2.9x1.625mm, Pitch 0.95mm, IPC Low Density)
pins: 1 HYST (in) "Hysteresis Input. Connect to VCC for 2degreesC of hysteresis or to GND for 10degreesC hysteresis", 2 GND (power) "Ground", 3 OUT (out) "Analog Output. Voltage represents the die’s temperature.", 4 VCC (power) "Input Supply. Bypass to ground with a 0.1uF capacitor.", 5 ~{TOVER} (oc) "Open-Drain, Active-Low Output (Hot Threshold). T\O\V\E\R\ goes low when the die temperature exceeds the factory-programmed hot temperature threshold. Connect to a 100k ohm pullup resistor. May be pulled up to a voltage (See Datasheet)"

## MAX6519UKP105+T
designator U?
Low-Cost, 2.7 to 5.5 V Temperature Switch, -55 to 125 degC, 5-Pin SOT23 (U5+2), Pb-Free, Tape and Reel; Generic Part Number: MAX6519; PartNumber: MAX6519UKP105+T; Functions: Temperature Switch/Temperature Comparator; Interface: Logic; DatasheetVersion: Rev. 1; PackageVersion: Rev. G, 04/2011; PackageReference: U5+2; PackageDescription: 5-Pin Small-Outline Transistor Package, Body 1.625 x 2.9 mm, Pitch 0.95 mm; Supplier 1: Digi-Key; Supplier Part Number 1: MAX6519UKP105+TTR-ND; Supplier 2: Digi-Key; Supplier Part Number 2: MAX6519UKP105+TCT-ND; Supplier 3: Digi-Key; Supplier Part Number 3: MAX6519UKP105+TDKR-ND; Supplier 4: Mouser; Supplier Part Number 4: 700-MAX6519UKP105T; Packing: Tape and Reel; Mounting Technology: Surface Mount; Code_JEDEC: MO178; ComponentLink1Description: Manufacturer URL; ComponentLink1URL: http://www.maximintegrated.com/; ComponentLink2Description: Datasheet; ComponentLink2URL: http://datasheets.maximintegrated.com/en/ds/MAX6516-MAX6519.pdf; ComponentLink3Description: Package Specification; ComponentLink3URL: http://pdfserv.maximintegrated.com/package_dwgs/21-0057.PDF
footprint MAXM-U5+2_N (SOT23, 5-Leads, Body 2.9x1.625mm, Pitch 0.95mm, IPC Medium Density)
footprint MAXM-U5+2_L (SOT23, 5-Leads, Body 2.9x1.625mm, Pitch 0.95mm, IPC High Density)
footprint MAXM-U5+2_M (SOT23, 5-Leads, Body 2.9x1.625mm, Pitch 0.95mm, IPC Low Density)
pins: 1 HYST (in) "Hysteresis Input. Connect to VCC for 2degreesC of hysteresis or to GND for 10degreesC hysteresis", 2 GND (power) "Ground", 3 OUT (out) "Analog Output. Voltage represents the die’s temperature.", 4 VCC (power) "Input Supply. Bypass to ground with a 0.1uF capacitor.", 5 ~{TOVER} (oc) "Open-Drain, Active-Low Output (Hot Threshold). T\O\V\E\R\ goes low when the die temperature exceeds the factory-programmed hot temperature threshold. Connect to a 100k ohm pullup resistor. May be pulled up to a voltage (See Datasheet)"

## MAX6519UKP115+T
designator U?
Low-Cost, 2.7 to 5.5 V Temperature Switch, -55 to 125 degC, 5-Pin SOT23 (U5+2), Pb-Free, Tape and Reel; Generic Part Number: MAX6519; PartNumber: MAX6519UKP115+T; Functions: Temperature Switch/Temperature Comparator; Interface: Logic; DatasheetVersion: Rev. 1; PackageVersion: Rev. G, 04/2011; PackageReference: U5+2; PackageDescription: 5-Pin Small-Outline Transistor Package, Body 1.625 x 2.9 mm, Pitch 0.95 mm; Supplier 1: Digi-Key; Supplier Part Number 1: MAX6519UKP115+T-ND; Supplier 2: Mouser; Supplier Part Number 2: 700-MAX6519UKP115T; Packing: Tape and Reel; Mounting Technology: Surface Mount; Code_JEDEC: MO178; ComponentLink1Description: Manufacturer URL; ComponentLink1URL: http://www.maximintegrated.com/; ComponentLink2Description: Datasheet; ComponentLink2URL: http://datasheets.maximintegrated.com/en/ds/MAX6516-MAX6519.pdf; ComponentLink3Description: Package Specification; ComponentLink3URL: http://pdfserv.maximintegrated.com/package_dwgs/21-0057.PDF
footprint MAXM-U5+2_N (SOT23, 5-Leads, Body 2.9x1.625mm, Pitch 0.95mm, IPC Medium Density)
footprint MAXM-U5+2_L (SOT23, 5-Leads, Body 2.9x1.625mm, Pitch 0.95mm, IPC High Density)
footprint MAXM-U5+2_M (SOT23, 5-Leads, Body 2.9x1.625mm, Pitch 0.95mm, IPC Low Density)
pins: 1 HYST (in) "Hysteresis Input. Connect to VCC for 2degreesC of hysteresis or to GND for 10degreesC hysteresis", 2 GND (power) "Ground", 3 OUT (out) "Analog Output. Voltage represents the die’s temperature.", 4 VCC (power) "Input Supply. Bypass to ground with a 0.1uF capacitor.", 5 ~{TOVER} (oc) "Open-Drain, Active-Low Output (Hot Threshold). T\O\V\E\R\ goes low when the die temperature exceeds the factory-programmed hot temperature threshold. Connect to a 100k ohm pullup resistor. May be pulled up to a voltage (See Datasheet)"

## MAX6575HZUT+
designator U?
Temperature Sensor with Multidrop Single Wire Digital Interface, -40 to 125 degC, 6-Pin SOT23 (U6+4), Pb-Free; Generic Part Number: MAX6575; PartNumber: MAX6575HZUT+; Interface: Pulse Delay; Multi Droppable: Yes; Parasite Pwr.: No; DatasheetVersion: Rev. 0; PackageVersion: Rev. N, 08/2012; PackageReference: U6+4; PackageDescription: 6-Pin Small-Outline Transistor Package, Body 1.625 x 2.9 mm, Pitch 0.95 mm; Supplier 1: Mouser; Supplier Part Number 1: N/A; Mounting Technology: Surface Mount; Code_JEDEC: MO-178; ComponentLink1Description: Manufacturer URL; ComponentLink1URL: http://www.maximintegrated.com/; ComponentLink2Description: Datasheet; ComponentLink2URL: http://datasheets.maximintegrated.com/en/ds/MAX6575H-MAX6575L.pdf; ComponentLink3Description: Package Specification; ComponentLink3URL: http://pdfserv.maximintegrated.com/package_dwgs/21-0058.PDF
footprint MAXM-U6+4_N (SOT23, 6-Leads, Body 2.9x1.625mm, Pitch 0.95mm, IPC Medium Density)
footprint MAXM-U6+4_L (SOT23, 6-Leads, Body 2.9x1.625mm, Pitch 0.95mm, IPC High Density)
footprint MAXM-U6+4_M (SOT23, 6-Leads, Body 2.9x1.625mm, Pitch 0.95mm, IPC Low Density)
pins: 1 VDD (power) "Positive Supply Voltage", 2 GND (power) "Ground", 3 NC "No Connection. Connect pin to GND or leave open.", 4 TS0 (in) "Time-Select Pins.Set the time delay factor by connecting TS1 and TS0 to either VDD or GND.", 5 TS1 (in) "Time-Select Pins.Set the time delay factor by connecting TS1 and TS0 to either VDD or GND.", 6 I/O (io) "Bidirectional Interface Pin. A time delay between when the part is initiated externally by pulling I/O low and when the part subsequently pulls I/O low, is proportional to absolute temperature (degreesK)."

## MAX6575HZUT+T
designator U?
Temperature Sensor with Multidrop Single Wire Digital Interface, -40 to 125 degC, 6-Pin SOT23 (U6+4), Pb-Free, Tape and Reel; Generic Part Number: MAX6575; PartNumber: MAX6575HZUT+T; Interface: Pulse Delay; Multi Droppable: Yes; Parasite Pwr.: No; DatasheetVersion: Rev. 0; PackageVersion: Rev. N, 08/2012; PackageReference: U6+4; PackageDescription: 6-Pin Small-Outline Transistor Package, Body 1.625 x 2.9 mm, Pitch 0.95 mm; Supplier 1: Digi-Key; Supplier Part Number 1: MAX6575HZUT+TTR-ND; Supplier 2: Digi-Key; Supplier Part Number 2: MAX6575HZUT+TCT-ND; Supplier 3: Digi-Key; Supplier Part Number 3: MAX6575HZUT+TDKR-ND; Supplier 4: Mouser; Supplier Part Number 4: 700-MAX6575HZUTT; Packing: Tape and Reel; Mounting Technology: Surface Mount; Code_JEDEC: MO-178; ComponentLink1Description: Manufacturer URL; ComponentLink1URL: http://www.maximintegrated.com/; ComponentLink2Description: Datasheet; ComponentLink2URL: http://datasheets.maximintegrated.com/en/ds/MAX6575H-MAX6575L.pdf; ComponentLink3Description: Package Specification; ComponentLink3URL: http://pdfserv.maximintegrated.com/package_dwgs/21-0058.PDF
footprint MAXM-U6+4_N (SOT23, 6-Leads, Body 2.9x1.625mm, Pitch 0.95mm, IPC Medium Density)
footprint MAXM-U6+4_L (SOT23, 6-Leads, Body 2.9x1.625mm, Pitch 0.95mm, IPC High Density)
footprint MAXM-U6+4_M (SOT23, 6-Leads, Body 2.9x1.625mm, Pitch 0.95mm, IPC Low Density)
pins: 1 VDD (power) "Positive Supply Voltage", 2 GND (power) "Ground", 3 NC "No Connection. Connect pin to GND or leave open.", 4 TS0 (in) "Time-Select Pins.Set the time delay factor by connecting TS1 and TS0 to either VDD or GND.", 5 TS1 (in) "Time-Select Pins.Set the time delay factor by connecting TS1 and TS0 to either VDD or GND.", 6 I/O (io) "Bidirectional Interface Pin. A time delay between when the part is initiated externally by pulling I/O low and when the part subsequently pulls I/O low, is proportional to absolute temperature (degreesK)."

## MAX6575HZUT-T
designator U?
Temperature Sensor with Multidrop Single Wire Digital Interface, -40 to 125 degC, 6-Pin SOT23 (U6-4), Tape and Reel; Generic Part Number: MAX6575; PartNumber: MAX6575HZUT-T; Interface: Pulse Delay; Multi Droppable: Yes; Parasite Pwr.: No; DatasheetVersion: Rev. 0; PackageVersion: Rev. N, 08/2012; PackageReference: U6-4; PackageDescription: 6-Pin Small-Outline Transistor Package, Body 1.625 x 2.9 mm, Pitch 0.95 mm; Supplier 1: Mouser; Supplier Part Number 1: N/A; Packing: Tape and Reel; Mounting Technology: Surface Mount; Code_JEDEC: MO-178; ComponentLink1Description: Manufacturer URL; ComponentLink1URL: http://www.maximintegrated.com/; ComponentLink2Description: Datasheet; ComponentLink2URL: http://datasheets.maximintegrated.com/en/ds/MAX6575H-MAX6575L.pdf; ComponentLink3Description: Package Specification; ComponentLink3URL: http://pdfserv.maximintegrated.com/package_dwgs/21-0058.PDF
footprint MAXM-U6-4_N (SOT23, 6-Leads, Body 2.9x1.625mm, Pitch 0.95mm, IPC Medium Density)
footprint MAXM-U6-4_L (SOT23, 6-Leads, Body 2.9x1.625mm, Pitch 0.95mm, IPC High Density)
footprint MAXM-U6-4_M (SOT23, 6-Leads, Body 2.9x1.625mm, Pitch 0.95mm, IPC Low Density)
pins: 1 VDD (power) "Positive Supply Voltage", 2 GND (power) "Ground", 3 NC "No Connection. Connect pin to GND or leave open.", 4 TS0 (in) "Time-Select Pins.Set the time delay factor by connecting TS1 and TS0 to either VDD or GND.", 5 TS1 (in) "Time-Select Pins.Set the time delay factor by connecting TS1 and TS0 to either VDD or GND.", 6 I/O (io) "Bidirectional Interface Pin. A time delay between when the part is initiated externally by pulling I/O low and when the part subsequently pulls I/O low, is proportional to absolute temperature (degreesK)."

## MAX6575LZUT
designator U?
Temperature Sensor with Multidrop Single Wire Digital Interface, -40 to 125 degC, 6-Pin SOT23 (U6-4); Generic Part Number: MAX6575; PartNumber: MAX6575LZUT; Interface: Pulse Delay; Multi Droppable: Yes; Parasite Pwr.: No; DatasheetVersion: Rev. 0; PackageVersion: Rev. N, 08/2012; PackageReference: U6-4; PackageDescription: 6-Pin Small-Outline Transistor Package, Body 1.625 x 2.9 mm, Pitch 0.95 mm; Supplier 1: Mouser; Supplier Part Number 1: N/A; Mounting Technology: Surface Mount; Code_JEDEC: MO-178; ComponentLink1Description: Manufacturer URL; ComponentLink1URL: http://www.maximintegrated.com/; ComponentLink2Description: Datasheet; ComponentLink2URL: http://datasheets.maximintegrated.com/en/ds/MAX6575H-MAX6575L.pdf; ComponentLink3Description: Package Specification; ComponentLink3URL: http://pdfserv.maximintegrated.com/package_dwgs/21-0058.PDF
footprint MAXM-U6-4_N (SOT23, 6-Leads, Body 2.9x1.625mm, Pitch 0.95mm, IPC Medium Density)
footprint MAXM-U6-4_L (SOT23, 6-Leads, Body 2.9x1.625mm, Pitch 0.95mm, IPC High Density)
footprint MAXM-U6-4_M (SOT23, 6-Leads, Body 2.9x1.625mm, Pitch 0.95mm, IPC Low Density)
pins: 1 VDD (power) "Positive Supply Voltage", 2 GND (power) "Ground", 3 NC "No Connection. Connect pin to GND or leave open.", 4 TS0 (in) "Time-Select Pins.Set the time delay factor by connecting TS1 and TS0 to either VDD or GND.", 5 TS1 (in) "Time-Select Pins.Set the time delay factor by connecting TS1 and TS0 to either VDD or GND.", 6 I/O (io) "Bidirectional Interface Pin. A time delay between when the part is initiated externally by pulling I/O low and when the part subsequently pulls I/O low, is proportional to absolute temperature (degreesK)."

## MAX6575LZUT+
designator U?
Temperature Sensor with Multidrop Single Wire Digital Interface, -40 to 125 degC, 6-Pin SOT23 (U6+4), Pb-Free; Generic Part Number: MAX6575; PartNumber: MAX6575LZUT+; Interface: Pulse Delay; Multi Droppable: Yes; Parasite Pwr.: No; DatasheetVersion: Rev. 0; PackageVersion: Rev. N, 08/2012; PackageReference: U6+4; PackageDescription: 6-Pin Small-Outline Transistor Package, Body 1.625 x 2.9 mm, Pitch 0.95 mm; Supplier 1: Mouser; Supplier Part Number 1: N/A; Mounting Technology: Surface Mount; Code_JEDEC: MO-178; ComponentLink1Description: Manufacturer URL; ComponentLink1URL: http://www.maximintegrated.com/; ComponentLink2Description: Datasheet; ComponentLink2URL: http://datasheets.maximintegrated.com/en/ds/MAX6575H-MAX6575L.pdf; ComponentLink3Description: Package Specification; ComponentLink3URL: http://pdfserv.maximintegrated.com/package_dwgs/21-0058.PDF
footprint MAXM-U6+4_N (SOT23, 6-Leads, Body 2.9x1.625mm, Pitch 0.95mm, IPC Medium Density)
footprint MAXM-U6+4_L (SOT23, 6-Leads, Body 2.9x1.625mm, Pitch 0.95mm, IPC High Density)
footprint MAXM-U6+4_M (SOT23, 6-Leads, Body 2.9x1.625mm, Pitch 0.95mm, IPC Low Density)
pins: 1 VDD (power) "Positive Supply Voltage", 2 GND (power) "Ground", 3 NC "No Connection. Connect pin to GND or leave open.", 4 TS0 (in) "Time-Select Pins.Set the time delay factor by connecting TS1 and TS0 to either VDD or GND.", 5 TS1 (in) "Time-Select Pins.Set the time delay factor by connecting TS1 and TS0 to either VDD or GND.", 6 I/O (io) "Bidirectional Interface Pin. A time delay between when the part is initiated externally by pulling I/O low and when the part subsequently pulls I/O low, is proportional to absolute temperature (degreesK)."